# Altium footprint library benchtoppcblib.PcbLib: 14 footprints
Each footprint in its own frame and in the unit in brackets; x right, y up, seen from the top. Pads: shape width x height; smd on the part's side, far side on the other; paste and mask are expansions set on the pad; w line width, h text height; cw(c..) or ccw(c..) is an arc to the next point about the centre after c.
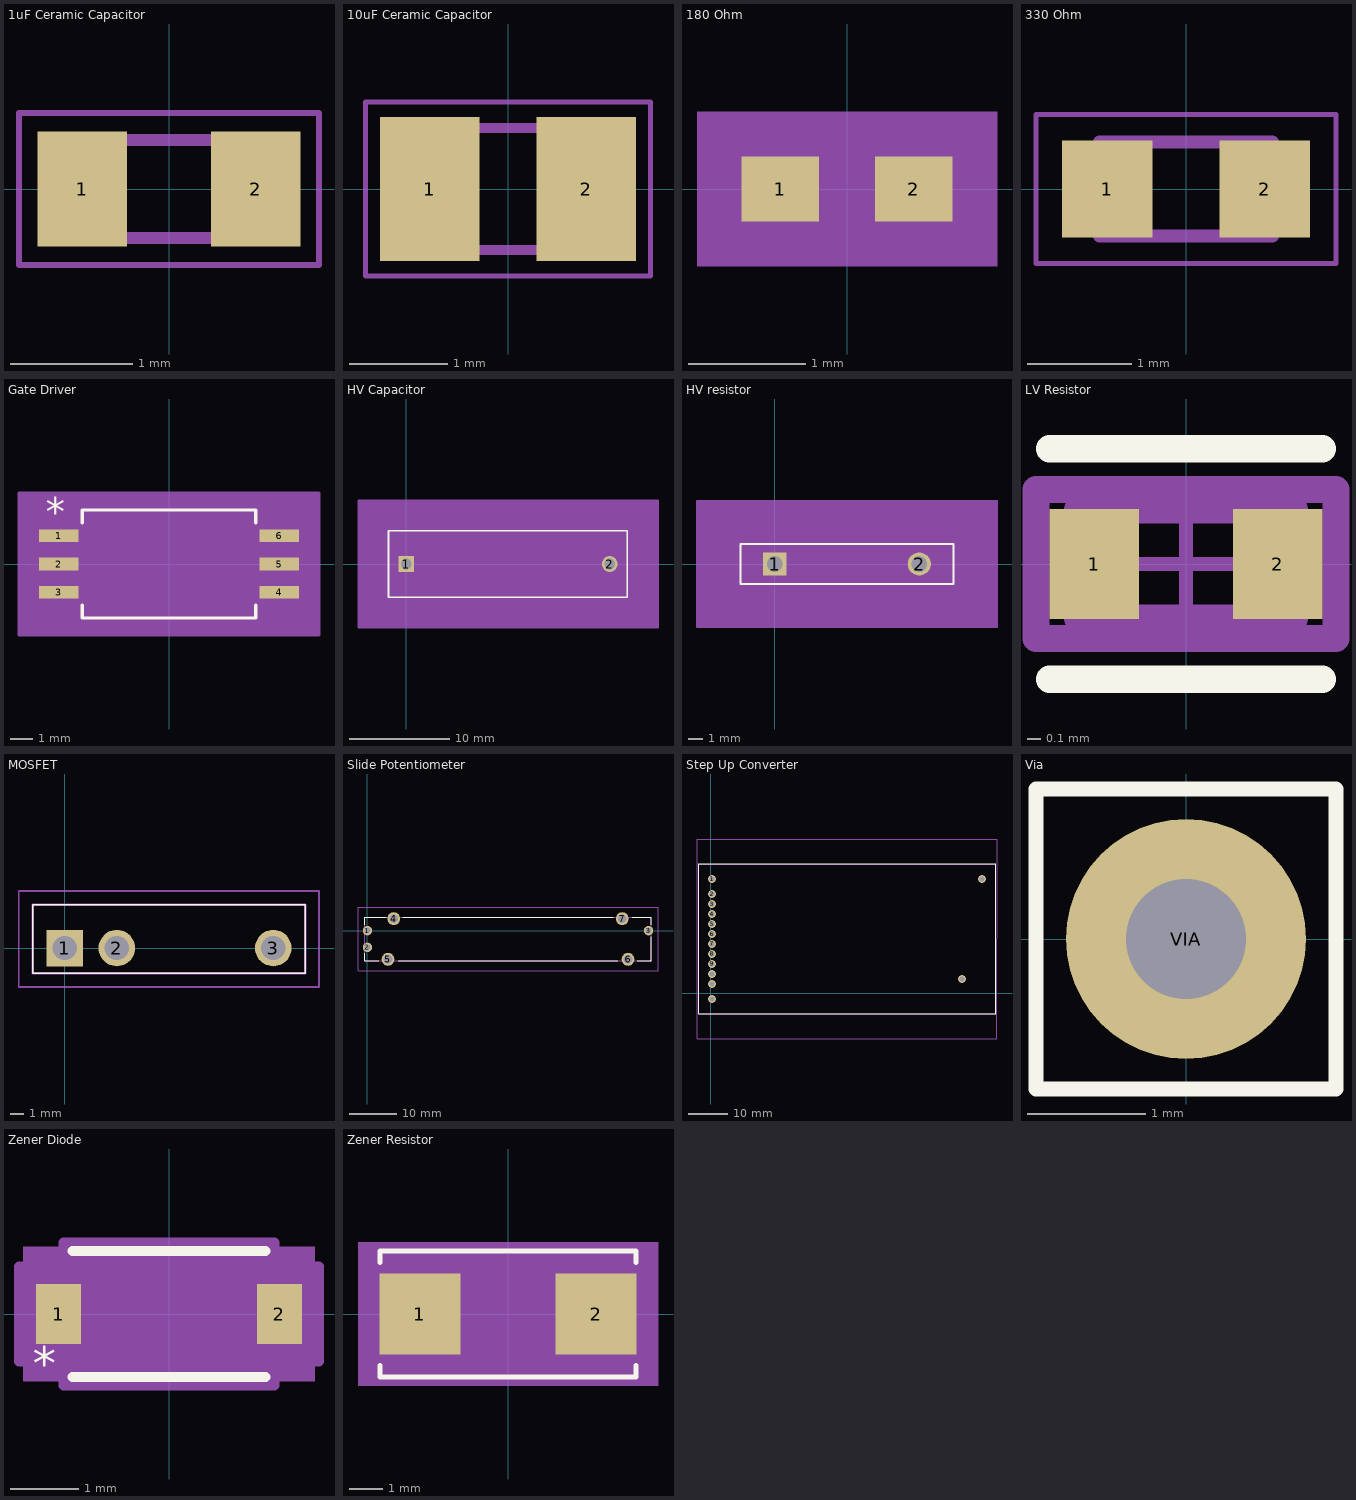
[diagram p0: the footprints below, top view; thin cyan lines are the x and y axes]

## 1uF Ceramic Capacitor [mm] "CL10A105KA8NFNC"
pads (2):
  rect 0.73x0.94 smd: 1(-0.71,0) 2(0.71,0)
Mechanical 13:
  lines w0.1: -0.8,-0.4 0.8,-0.4 0.8,0.4 -0.8,0.4 -0.8,-0.4
Mechanical 15:
  lines w0.05: -1.225,-0.62 1.225,-0.62 1.225,0.62 -1.225,0.62 -1.225,-0.62
3D body "CL10A105KA8NFNC.stp": height 0.9, standoff 0, extent -0.8,-0.4 0.8,0.4

## 10uF Ceramic Capacitor [mm] "C0805C106K3PAC7800"
pads (2):
  rect 1.02x1.47 smd: 1(-0.8,0) 2(0.8,0)
Mechanical 13:
  lines w0.1: -1,-0.625 -1,0.625 1,0.625 1,-0.625 -1,-0.625
Mechanical 15:
  lines w0.05: -1.46,-0.89 -1.46,0.89 1.46,0.89 1.46,-0.89 -1.46,-0.89
3D body "C0805C106K3PACTU.stp": height 1.45, standoff 0, extent -1,-0.625 1,0.625

## 180 Ohm [mil] "RES_RK73H1E_KOA"
pads (2):
  rect 26x22 smd paste+0 mask+0: 1(-22.5,0) 2(22.5,0)
Mechanical 5:
  region: 50.5,-26 -50.5,-26 -50.5,26 50.5,26
Mechanical 13:
  lines w1: -21.5,-11 -21.5,11 ; -21.5,-11 21.5,-11 ; -21.5,-11 -9.5,-11 -9.5,11 -21.5,11 ; -21.5,-11 -21.5,11 ; -21.5,11 21.5,11 ; 21.5,-11 21.5,11 ; 21.5,-11 21.5,11 ; 21.5,-11 9.5,-11 9.5,11 21.5,11
Mechanical 15:
  region: 45.5,-21 -45.5,-21 -45.5,21 45.5,21
  lines w6: -45.5,-21 45.5,-21 45.5,21 -45.5,21 -45.5,-21
3D body: height 10, standoff 0, extent 0,0 10,10

## 330 Ohm [mm] "RESC1508X55N"
pads (2):
  rect 0.87x0.93 smd: 1(-0.755,0) 2(0.755,0)
Mechanical 13:
  lines w0.127: -0.83,-0.45 -0.83,0.45 0.83,0.45 0.83,-0.45 -0.83,-0.45
Mechanical 15:
  lines w0.05: -1.44,-0.715 -1.44,0.715 1.44,0.715 1.44,-0.715 -1.44,-0.715

## Gate Driver [mil] "ADuM4120"
pads (6):
  rect 69.53x22.08 smd paste+0 mask+0: 1(-194.13,50) 2(-194.13,0) 3(-194.13,-50) 4(194.13,-50) 5(194.13,0) 6(194.13,50)
Top Overlay:
  lines w6: -152.64,-72.28 -152.64,-95.06 152.64,-95.06 152.64,-72.28 ; -152.64,72.28 -152.64,95.06 152.64,95.06 152.64,72.28
  text "*" at -216.63,67.08 h50
Mechanical 5:
  region: 263.89,-125.06 -263.89,-125.06 -263.89,125.06 263.89,125.06
Mechanical 13:
  lines w0: -12,90.06 ccw(c0,90.06) 12,90.06
  lines w1: -206.89,-60.04 -147.64,-60.04 -147.64,-39.96 -206.89,-39.96 -206.89,-60.04 ; -206.89,-10.04 -147.64,-10.04 -147.64,10.04 -206.89,10.04 -206.89,-10.04 ; -206.89,39.96 -147.64,39.96 -147.64,60.04 -206.89,60.04 -206.89,39.96 ; -147.64,-90.06 -147.64,90.06 147.64,90.06 147.64,-90.06 -147.64,-90.06 ; 147.64,-60.04 206.89,-60.04 206.89,-39.96 147.64,-39.96 147.64,-60.04 ; 147.64,-10.04 206.89,-10.04 206.89,10.04 147.64,10.04 147.64,-10.04 ; 147.64,39.96 206.89,39.96 206.89,60.04 147.64,60.04 147.64,39.96
  text "*" at -145.14,37.06 h50
Mechanical 15:
  region: -167.64,-81.04 -248.89,-81.04 -248.89,81.04 -167.64,81.04 -167.64,110.06 167.64,110.06 167.64,81.04 248.89,81.04 248.89,-81.04 167.64,-81.04 167.64,-110.06 -167.64,-110.06
  lines w5: -263.78,-125 263.78,-125 263.78,125 -263.78,125 -263.78,-125
  lines w6: 167.64,81.04 167.64,110.06 -167.64,110.06 -167.64,81.04 -248.89,81.04 -248.89,-81.04 -167.64,-81.04 -167.64,-110.06 167.64,-110.06 167.64,-81.04 248.89,-81.04
3D body: height 10, standoff 0, extent 0,0 10,10

## HV Capacitor [mil] "SV17_AVX"
pads (2):
  rect 62x62 hole 42 mask+0: 1(0,0)
  round 62 hole 42 mask+0: 2(800,0)
Top Overlay:
  lines w6: -70,-130 -70,130 870,130 870,-130 -70,-130
Mechanical 5:
  region: 990,-250 -190,-250 -190,250 990,250
Mechanical 13:
  lines w1: -65,-125 865,-125 865,125 -65,125 -65,-125
Mechanical 15:
  region: 875,-135 -75,-135 -75,135 875,135
  lines w5: -189.96,-250 990.16,-250 990.16,250 -189.96,250 -189.96,-250
  lines w6: -75,-135 875,-135 875,135 -75,135 -75,-135
3D body: height 10, standoff 0, extent 0,0 10,10

## HV resistor [mil] "RES_SM10203_OHM"
pads (2):
  rect 64x64 hole 44 mask+0: 1(0,0)
  round 64 hole 44 mask+0: 2(400,0)
Top Overlay:
  lines w6: -95,-55 495,-55 495,55 -95,55 -95,-55
Mechanical 5:
  region: 615,-175 -215,-175 -215,175 615,175
Mechanical 13:
  lines w1: -90,-50 490,-50 490,50 -90,50 -90,-50
Mechanical 15:
  region: 500,-60 -100,-60 -100,60 500,60
  lines w5: -215,-175 -215,175 615,175 615,-175 -215,-175
  lines w6: -100,-60 -100,60 500,60 500,-60 -100,-60
3D body: height 10, standoff 0, extent 0,0 10,10

## LV Resistor [mil] "Yageo_AC0603_IPC_C"
pads (2):
  rect 25.93x31.97 smd paste+0 mask+0: 1(-26.64,0) 2(26.64,0)
Top Overlay:
  lines w7.87: -39.61,-33.46 39.61,-33.46 ; -39.61,33.46 39.61,33.46
Mechanical 10:
  lines w7.87: -43.55,-21.65 -43.55,21.65 43.55,21.65 43.55,-21.65 -43.55,-21.65
  text ".Designator" at 0,7.39 h39.37
Mechanical 12:
  lines w7.87: -31.5,-15.75 -31.5,15.75 31.5,15.75 31.5,-15.75 -31.5,-15.75
Mechanical 15:
  lines w3.94: -19.68,0 19.68,0 ; 0,-19.68 0,19.68
  lines w7.87: -43.55,-21.65 -43.55,21.65 43.55,21.65 43.55,-21.65 -43.55,-21.65
3D body "Res_Yageo_AC0603DR-0710KL_eec.STEP": height 10, standoff 0, extent -43.55,-21.65 43.55,21.65

## MOSFET [mm]
pads (3):
  rect 2.67x2.67 hole 1.78: 1(0,0)
  round 2.67 hole 1.78: 2(3.81,0) 3(15.24,0)
Top Overlay:
  lines w0.127: -2.34,-1.85 -2.34,3.17 17.58,3.17 17.58,-1.85 -2.34,-1.85
Mechanical 13:
  lines w0.2: -2.34,-1.85 -2.34,3.17 17.58,3.17 17.58,-1.85 -2.34,-1.85
Mechanical 15:
  lines w0.1: -3.34,-2.85 -3.34,4.17
  lines w0.127: -3.34,-2.85 18.58,-2.85 18.58,4.17 -3.34,4.17
3D body "IXTL2N450.stp": height 26.52, standoff -5, extent -2.34,-1.85 17.58,3.17

## Slide Potentiometer [mm] "PS4510MA1BR500"
pads (7):
  round 1.95 hole 1.3: 1(0,0) 2(0,-3.5) 3(58.8,0)
  round 2.7 hole 1.8: 4(5.5,2.5) 5(4.3,-6) 6(54.5,-6) 7(53.3,2.5)
Top Overlay:
  lines w0.127: -0.6,-4.75 -0.6,-6.25 2.4,-6.25 ; -0.6,1.25 -0.6,2.75 3.9,2.75 ; 6.4,-6.25 52.4,-6.25 ; 7.4,2.75 51.4,2.75 ; 55.4,2.75 59.4,2.75 59.4,1.25 ; 56.4,-6.25 59.4,-6.25 59.4,-1.25
Mechanical 13:
  lines w0.2: -0.6,-6.25 -0.6,2.75 59.4,2.75 59.4,-6.25 -0.6,-6.25
Mechanical 15:
  lines w0.127: -1.975,-8.35 -1.975,4.85 60.775,4.85 60.775,-8.35 -1.975,-8.35
3D body "PS45-10MA1BR500.stp": height 15.1, standoff -5, extent -0.6,-6.798 59.4,3.298

## Step Up Converter [mil] "HRL30"
pads (14):
  round 80 hole 50: 1(14.57,1143.7) 2(14.57,993.7) 3(14.57,893.7) 4(14.57,793.7) 5(14.57,693.7) 6(14.57,593.7) 7(14.57,493.7) 8(14.57,393.7) 9(14.57,293.7) 10(14.57,193.7) 11(14.57,93.7) 12(14.57,-56.3) 13(2514.57,143.7) 14(2714.57,1143.7)
Top Overlay:
  lines w5: -120,-206 2850,-206 2850,1294 -120,1294 -120,-206
Mechanical 13:
  lines w10: -120.43,-206.3 -120.43,1293.7 2849.57,1293.7 2849.57,-206.3 -120.43,-206.3
Mechanical 15:
  lines w10: -135.43,-456.3 -135.43,1543.7 2864.57,1543.7 2864.57,-456.3 -135.43,-456.3

## Via [mil]
pads (1):
  round 80 hole 40: VIA(0,0)
Top Overlay:
  lines w5: -50,-50 50,-50 50,50 -50,50 -50,-50

## Zener Diode [mil] "KDZVTR16B"
pads (2):
  rect 26x35 smd paste+0 mask+0: 1(-64,0) 2(64,0)
Top Overlay:
  lines w6: -56,-36.5 56,-36.5 ; -56,36.5 56,36.5
  text "*" at -79,-39 h20
Mechanical 5:
  region: 84.5,-39 -84.5,-39 -84.5,39 84.5,39
Mechanical 13:
  lines w1: -51,-15.75 -35.25,-31.5 ; -51,15.75 -35.25,31.5 ; -69,-17.5 -51,-17.5 -51,17.5 -69,17.5 -69,-17.5 ; -51,-31.5 -51,31.5 51,31.5 51,-31.5 -51,-31.5 ; 51,-17.5 69,-17.5 69,17.5 51,17.5 51,-17.5
  text "*" at -53.5,-25 h50
Mechanical 15:
  region: -61,-27.5 -87,-27.5 -87,27.5 -61,27.5 -61,41.5 61,41.5 61,27.5 87,27.5 87,-27.5 61,-27.5 61,-41.5 -61,-41.5
  lines w6: -87,-27.5 -61,-27.5 -61,-41.5 61,-41.5 61,-27.5 87,-27.5 87,27.5 61,27.5 61,41.5 -61,41.5 -61,27.5 -87,27.5 -87,-27.5
3D body: height 10, standoff 0, extent 0,0 10,10

## Zener Resistor [mil] "BO_PWR3014"
pads (2):
  rect 95x95 smd paste+0 mask+0: 1(-103.5,0) 2(103.5,0)
Top Overlay:
  lines w6: -150,-60.6 -150,-74 150,-74 150,-60.6 ; -150,60.6 -150,74 150,74 150,60.6
Mechanical 5:
  region: 176,-84 -176,-84 -176,84 176,84
Mechanical 13:
  lines w1: -145,-69 -145,69 145,69 145,-69 -145,-69
Mechanical 15:
  region: -155,-57.5 -161,-57.5 -161,57.5 -155,57.5 -155,79 155,79 155,57.5 161,57.5 161,-57.5 155,-57.5 155,-79 -155,-79
  lines w6: -161,-57.5 -155,-57.5 -155,-79 155,-79 155,-57.5 161,-57.5 161,57.5 155,57.5 155,79 -155,79 -155,57.5 -161,57.5 -161,-57.5
3D body: height 10, standoff 0, extent 0,0 10,10